# EAGLE library part MCP23016 (library Btz)
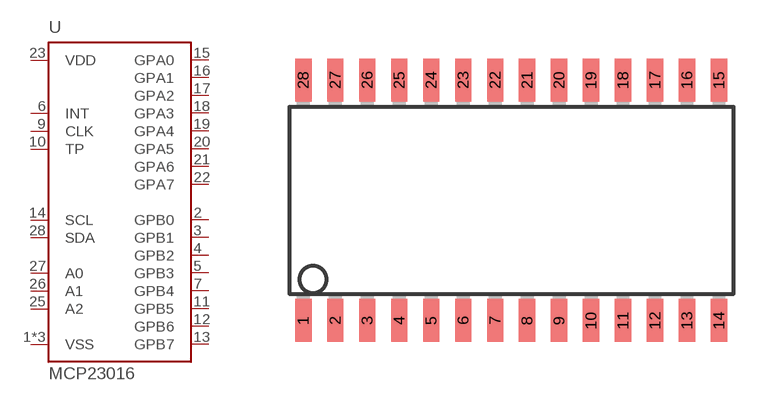
[diagram p3: symbol with the pads of SO28W; footprint SO28W]

Designator prefix -

## MCP23016  [SO28W]
1  VSS  pwr
2  GPB0
3  GPB1
4  GPB2
5  GPB3
6  INT  out
7  GPB4
8  VSS  pwr
9  CLK
10  TP
11  GPB5
12  GPB6
13  GPB7
14  SCL  in
15  GPA0
16  GPA1
17  GPA2
18  GPA3
19  GPA4
20  GPA5
21  GPA6
22  GPA7
23  VDD  pwr
24  VSS  pwr
25  A2  in
26  A1  in
27  A0  in
28  SDA

## Footprint SO28W (pad centres in mm)
smd 0.65 x 1.7: 1 -8.89,-4.78; 2 -7.62,-4.78; 3 -6.35,-4.78; 4 -5.08,-4.78; 5 -3.81,-4.78; 6 -2.54,-4.78; 7 -1.27,-4.78; 8 0,-4.78; 9 1.27,-4.78; 10 2.54,-4.78; 11 3.81,-4.78; 12 5.08,-4.78; 13 6.35,-4.78; 14 7.62,-4.78; 15 7.62,4.78; 16 6.35,4.78; 17 5.08,4.78; 18 3.81,4.78; 19 2.54,4.78; 20 1.27,4.78; 21 0,4.78; 22 -1.27,4.78; 23 -2.54,4.78; 24 -3.81,4.78; 25 -5.08,4.78; 26 -6.35,4.78; 27 -7.62,4.78; 28 -8.89,4.78